# EAGLE library part MAX98357A (library MAX98357A)
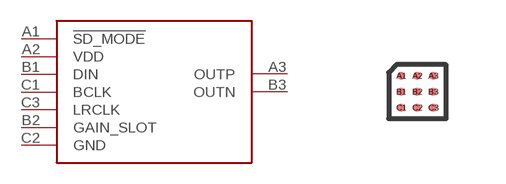
[diagram p0: symbol with the pads of MAX98357A; footprint MAX98357A]

Designator prefix U

## MAX98357A  [MAX98357A]
A1  !SD_MODE
A2  VDD
A3  OUTP
B1  DIN
B2  GAIN_SLOT
B3  OUTN
C1  BCLK
C2  GND
C3  LRCLK

## Footprint MAX98357A (pad centres in mm)
smd 0.2 x 0.2: A1 -0.4,0.4; A2 0,0.4; A3 0.4,0.4; B1 -0.4,0; B2 0,0; B3 0.4,0; C1 -0.4,-0.4; C2 0,-0.4; C3 0.4,-0.4